# EAGLE library part DC-DC-CONVERTER_DC213R (library eagle-template-export)
DC-DC CONVERTER
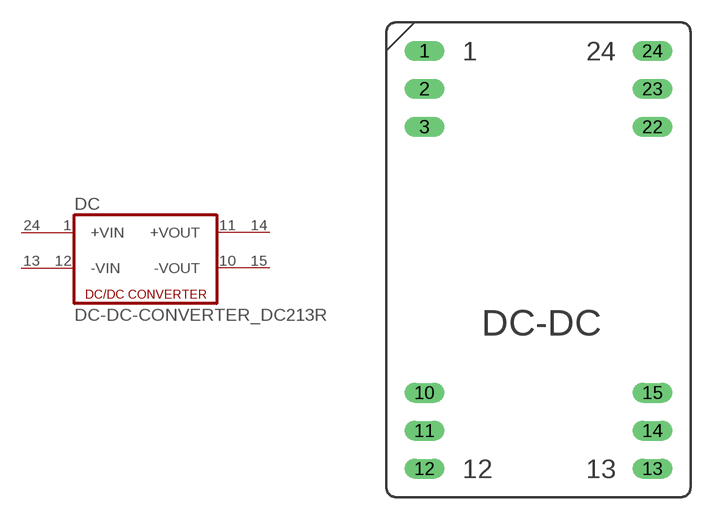
[diagram p6: symbol with the pads of DC-DC-CONVERTER_CMK; footprint DC-DC-CONVERTER_CMK]

Designator prefix DC

## DC-DC-CONVERTER_DC213R (OC_FARNELL: unknown; OC_NEWARK: unknown)  [DC-DC-CONVERTER_CMK]
1  +VIN  pas
10  -VOUT  pas
11  +VOUT  pas
12  -VIN  pas
13  -VIN1  pas
14  +VOUT1  pas
15  -VOUT1  pas
24  +VIN1  pas

## Footprint DC-DC-CONVERTER_CMK (pad centres in mm)
DC-DC CONVERTER
drill 0.813 long: 1 -7.62,13.97; 2 -7.62,11.43; 3 -7.62,8.89; 10 -7.62,-8.89; 11 -7.62,-11.43; 12 -7.62,-13.97; 13 7.62,-13.97; 14 7.62,-11.43; 15 7.62,-8.89; 22 7.62,8.89; 23 7.62,11.43; 24 7.62,13.97